# Altium schematic symbol library 辉光管.SCHLIB: 20 symbols
Pins are listed as number, name and electrical type; pins without a type are passive.

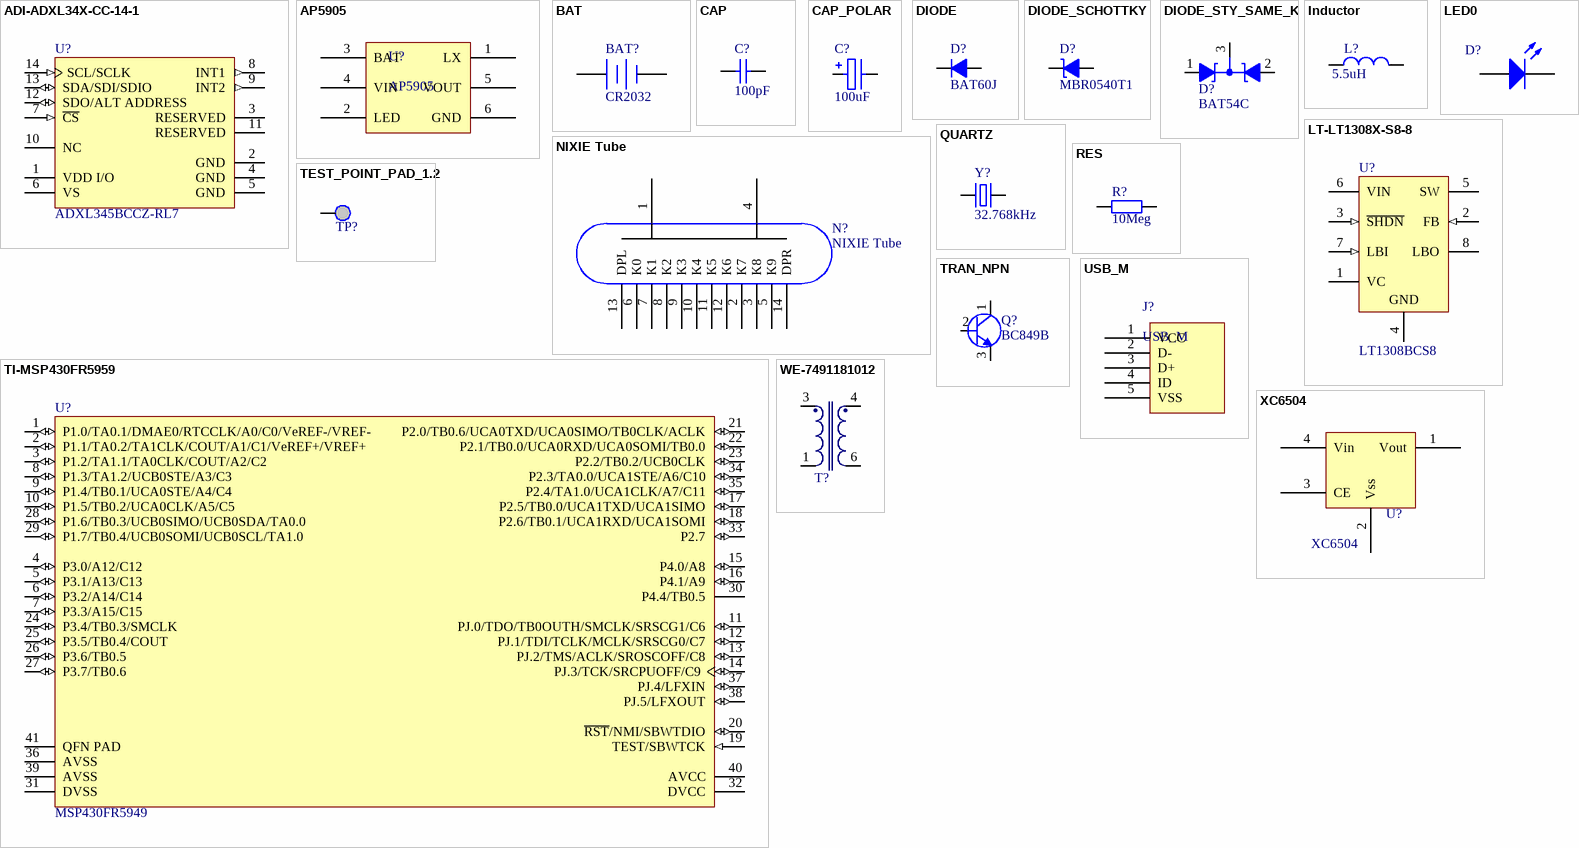
[diagram p0: symbols ADI-ADXL34X-CC-14-1 to XC6504]

## ADI-ADXL34X-CC-14-1
designator U?, comment ADXL345BCCZ-RL7
3-Axis, +/-2 g / +/-4 g / +/-8 g / +/-16 g Digital Accelerometer with Digital Output, 1.6 KHz BW, Industrial, 14-pin LGA, Reel; Manufacturer: Analog Devices; Supply Current: 140 uA; Voltage Supply (V): 2.0 to 3.6; -3dB Bandwidth: 1.6 KHz; Sensitivity: 256/128/64/32 LSB/g; # of Axes: 3; Output Type: Digital; PackageDescription: 14-Pin Land Grid Array, 3 x 5 mm Body, 0.8 mm Pitch; ComponentLink1URL: http://www.analog.com/en/index.html; ComponentLink2Description: Datasheet; PartNumber: ADXL345BCCZ-RL7; ComponentLink3Description: Package Specification; ComponentLink4URL: http://www.analog.com/en/mems-sensors/mems-inertial-sensors/adxl345/products/product.html; PackageVersion: 03-16-2010-A, 03/2010; ComponentLink1Description: Manufacturer URL; ComponentLink2URL: http://www.analog.com/static/imported-files/data_sheets/ADXL345.pdf; DatasheetVersion: Rev. D; PackageReference: CC-14-1; Packing: Reel; Mounting Technology: Surface Mount; ComponentLink4Description: Product URL; ComponentLink3URL: http://www.analog.com/static/imported-files/data_sheets/ADXL343.pdf
footprint ADI-CC-14-1_V (QFN, 14-Leads, Body 5x3mm, Pitch 0.8mm)
pins: 1 VDD I/O (power) "Digital Interface Supply Voltage.", 2 GND (power) "This pin must be connected to ground.", 3 RESERVED "Reserved. This pin must be connected to VS or left open.", 4 GND (power) "This pin must be connected to ground.", 5 GND (power) "This pin must be connected to ground.", 6 VS (power) "Supply Voltage.", 7 ~{CS} (in) "Chip Select.", 8 INT1 (out) "Interrupt 1 Output.", 9 INT2 (out) "Interrupt 2 Output.", 10 NC "Not Internally Connected.", 11 RESERVED "Reserved. This pin must be connected to ground or left open.", 12 SDO/ALT ADDRESS (io) "Serial Data Output (SPI 4-Wire)/Alternate I2C Address Select (I2C).", 13 SDA/SDI/SDIO (io) "Serial Data (I2C)/Serial Data Input (SPI 4-Wire)/Serial Data Input and Output (SPI 3-Wire).", 14 SCL/SCLK (in) "Serial Communications Clock. SCL is the clock for I2C, and SCLK is the clock for SPI."

## AP5905
designator U?
AIO Lithium Battery Management Chip
pins: 1 LX, 2 LED, 3 BAT (power), 4 VIN (power), 5 VOUT (power), 6 GND (power)

## BAT
designator BAT?, comment CR2032
Lithium Battery Coin Cell; PartNumber: 410; Valid: yes; MaterialNumber: 0515 0028; MaterialStatus: B; MaterialDescEN: discontinued use 0515 5028; MaterialDescDE: Lithium Knopfzelle CR 2032; MaterialPriceEUR: 0.22000; MaterialPriceRMB: 0.00000; MaterialStatus1000: A; MaterialNumberMounting: 0515-0028; AngularOffsetMounting: 0; UsageRecommendation: preferred; approved: no; ComponentLink1Description: release document; ComponentLink2Description: datasheet; ComponentLink1URL: http://testocadcae01/material/mechanic.php?id=5009; ComponentLink2URL: http://testocadcae01/material/view_ds.php?data_id=14451; Mounting: THT; StandardMagazin1000: no
pins: 1 +, 2 -

## CAP
designator C?, comment 100pF
Chip capacitor; PartNumber: 202; Valid: yes; MaterialNumber: 0286 0064; MaterialStatus: A; MaterialDescEN: MLCC chip capacitor, 0402, COG, 100pF,; MaterialDescDE: MLCC Chip Kondensator, 0402, COG, 100pF,; MaterialPriceEUR: 0.00092; MaterialPriceRMB: 0.00000; MaterialNumberMounting: 0286-0064; AngularOffsetMounting: 0; UsageRecommendation: preferred; Sim Validation: not tested; StandardMagazin1000: no; Tolerance: 5%; T_op_max: 125掳C; T_op_min: -55掳C; V_max: 50V; dielectric-material: ceramic NP0 / C0G; ComponentLink1Description: release document; ComponentLink2Description: datasheet first source; ComponentLink3Description: datasheet second source; ComponentLink1URL: http://testocadcae01/material/electronic.php?id=5237; ComponentLink2URL: http://testocadcae01/material/view_ds.php?data_id=14900; ComponentLink3URL: http://testocadcae01/material/view_ds.php?data_id=14901; Mounting: SMD; LifeCycleInformation: P; MaterialStatus1000: A; approved: yes; Package: C0402; Value: 100pF
footprint C0402
simulation model Capacitor (Simple ideal capacitor)
pins: 1, 2

## CAP_POLAR
designator C?, comment 100uF
Capacitor, Tant, 100uF, 6.3V, 10%, case B; PartNumber: 908; Valid: yes; MaterialNumber: 0288 0100; MaterialStatus: A; MaterialPriceEUR: 0.00000; MaterialPriceRMB: 0.36000; MaterialNumberMounting: 0288-0100; AngularOffsetMounting: 0; approved: no; Sim Validation: not tested; T_op_max: 125掳C; T_op_min: -55掳C; dielectric-material: electrolytic tantal; ComponentLink1Description: release document; ComponentLink2Description: datasheet; ComponentLink1URL: http://testocadcae01/material/electronic.php?id=5298; ComponentLink2URL: http://testocadcae01/material/view_ds.php?data_id=15027; Mounting: SMD; MaterialDescEN: Capacitor, Tant, 100Uf,6.3V, 10%, case B; MaterialDescDE: Capacitor, Tant, 100Uf,6.3V, 10%, case B; MaterialStatus5120: A; StandardMagazin1000: no; Package: TANT B; Value: 100uF; Tolerance: 10%; V_max: 6.3V
footprint TANTAL_SIZE_B
simulation model Capacitor
pins: 1, 2

## DIODE
designator D?, comment BAT60J
Small Signal Schottky Diode; PartNumber: 1001; Valid: yes; MaterialNumber: 0306 0046; MaterialStatus: A; MaterialDescEN: Diode, BAT60J, SOD-323,ST; MaterialPriceEUR: 0.00000; MaterialPriceRMB: 0.48000; MaterialNumberMounting: 0306-0046; AngularOffsetMounting: 0; approved: no; Sim Validation: not tested; T_op_min: -65掳C; T_op_max: 150掳C; V_r: 10V; P_max: 310mW; ComponentLink1Description: release document; ComponentLink2Description: datasheet; ComponentLink1URL: http://testocadcae01/material/electronic.php?id=5658; ComponentLink2URL: http://testocadcae01/material/view_ds.php?data_id=15609; Mounting: SMD; MaterialDescDE: Diode, BAT60J, SOD-323,ST; MaterialStatus5120: A; StandardMagazin1000: no; Package: SOD-323; diode-type: Schottky
footprint SOD323
pins: 1 K, 2 A

## DIODE_SCHOTTKY
designator D?, comment MBR0540T1
Schottky Dioden; PartNumber: 560; Valid: yes; MaterialNumber: 0306 0011; MaterialStatus: A; MaterialDescEN: Schottky-Diode MBR0540 (0.5A 40 V); MaterialPriceEUR: 0.01800; MaterialPriceRMB: 0.25000; MaterialNumberMounting: 0306-0011; AngularOffsetMounting: 0; UsageRecommendation: exceptional; Sim Validation: not tested; StandardMagazin1000: no; T_op_min: -55掳C; T_op_max: +150掳C; I_max: 0.5A; V_r: 40V; ComponentLink1Description: release document; ComponentLink2Description: datasheet; ComponentLink1URL: http://testocadcae01/material/electronic.php?id=5620; ComponentLink2URL: http://testocadcae01/material/view_ds.php?data_id=15538; Mounting: SMD; LifeCycleInformation: P; MaterialDescDE: Schottky-Diode MBR0540 (0.5A 40 V); MaterialStatus1000: A; MaterialStatus5120: A; approved: yes; Package: SOD123; diode-type: Schottky
footprint SOD123W
simulation model MBR0540T3 (Diode)
pins: 1 K, 2 A

## DIODE_STY_SAME_K
designator D?, comment BAT54C
Schottky Dioden, Gemeinsame Kathode; PartNumber: 586; Valid: yes; MaterialNumber: 0306 0543; MaterialStatus: A; MaterialDescEN: Diode BAT54C SOT-23,Philips; MaterialPriceEUR: 0.01000; MaterialPriceRMB: 0.08000; MaterialNumberMounting: 0306-0543; AngularOffsetMounting: 90; UsageRecommendation: exceptional; Sim Validation: broken; StandardMagazin1000: no; T_op_min: -65°C; T_op_max: +150°C; I_max: 600mA; V_r: 30V; ComponentLink1Description: release document; ComponentLink2Description: datasheet; ComponentLink1URL: http://testocadcae01/material/electronic.php?id=2325; ComponentLink2URL: http://testocadcae01/material/view_ds.php?data_id=9112; Mounting: SMD; MaterialDescDE: Diode BAT54C SOT-23,Philips; MaterialStatus1000: A; MaterialStatus5120: A; approved: yes; Package: SOT23-3; diode-type: Schottky
footprint SOT23_3_132
simulation model DI_BAT54C (Schottky Diode Gemeinsame K)
pins: 1 A, 2 A, 3 k

## Inductor
designator L?, comment 5.5uH
Inductor 5.5uH; Value: 5.5uH
footprint 1206 (贴片元件)
footprint L-SMD-7 (贴片电感7*7)
pins: 1, 2

## LED0
designator D?, comment LED  (value not drawn)
Published: 8-Jun-2000; LatestRevisionDate: 08-Jul-2005; LatestRevisionNote: Mech Layer 1 removed.; PackageReference: LED-0; Publisher: Altium Limited
footprint LED_A1 (直径3MM发?)
footprint LED_0805 (贴片二?)
footprint LED_A2 (直径3MM?)
footprint LED-3528 (贴片二极管)
pins: 1 A, 2 K

## LT-LT1308X-S8-8
designator U?, comment LT1308BCS8
Single Cell High Current Micropower 600 kHz Boost DC/DC Converter, 8-pin SOIC (S8-8), 0 to 70 degC; Manufacturer: Linear Technology; Number of Outputs: 1; PackageVersion: Rev. G, 03/2012; PartNumber: LT1308BCS8; PackageReference: S8-8; ComponentLink3URL: http://cds.linear.com/docs/en/packaging/05081610_G_SO8.pdf; ComponentLink2Description: Datasheet; Mounting Technology: Surface Mount; ComponentLink1Description: Manufacturer URL; RoHS: FALSE; DatasheetVersion: Rev. B; ComponentLink1URL: http://www.linear.com/; ComponentLink2URL: http://cds.linear.com/docs/en/datasheet/1308abfb.pdf; PackageDescription: 8-Pin Plastic Small Outline (Narrow .150 Inch), Body 4.9 x 3.9 mm, Pitch 1.27 mm; ComponentLink3Description: Package Specification
footprint LT-S8-8_M (SOIC, 8-Leads, Body 5x4mm, Pitch 1.27mm, IPC Low Density)
footprint LT-S8-8_N (SOIC, 8-Leads, Body 5x4mm, Pitch 1.27mm, IPC Medium Density)
footprint LT-S8-8_L (SOIC, 8-Leads, Body 5x4mm, Pitch 1.27mm, IPC High Density)
pins: 1 VC "Compensation Pin for Error Amplifier. Connect a series RC from this pin to ground. Typical values are 47kohm and 100pF. Minimize trace area at VC.", 2 FB (in) "Feedback Pin. Reference voltage is 1.22V. Connect resistive divider tap here. Minimize trace area at FB. Set VOUT according to: VOUT = 1.22V(1 + R1/R2).", 3 ~{SHDN} (in) "Shutdown. Ground this pin to turn off switcher. To enable, tie to 1V or more. S\H\D\N\ does not need to be at VIN to enable the device.", 4 GND (power) "Ground. Connect directly to local ground plane. Ground plane should enclose all components associated with the LT1308. PCB copper connected to these pins also functions as a heat sink. For the TSSOP package, connect all pins (See Datasheet)", 5 SW "Switch Pins. Connect inductor/diode here. Minimize trace area at these pins to keep EMI down. For the TSSOP package, connect all SW pins together at the package.", 6 VIN (power) "Supply Pins. Must have local bypass capacitor right at the pins, connected directly to ground. For the TSSOP package, connect both VIN pins together at the package.", 7 LBI (in) "Low-Battery Detector Input. 200mV reference. Voltage on LBI must stay between -100mV and 1V. Low-battery detector does not function with S\H\D\N\ pin grounded. Float LBI pin if not used.", 8 LBO (hiz) "Low-Battery Detector Output. Open collector, can sink 50uA. A 220kohm pull-up is recommended. LBO is high impedance when S\H\D\N\ is grounded"

## NIXIE Tube
designator N?
footprint NIXIE-Tube (SOP, 12-Leads, Body 6.5x2.5mm (max), Pitch 1.00mm, IPC Medium Density)
pins: 1 A0, 2 K7, 3 K8, 4 A0, 5 K9, 6 K0, 7 K1, 8 K2, 9 K3, 10 K4, 11 K5, 12 K6, 13 DPL, 14 DPR

## QUARTZ
designator Y?, comment 32.768kHz
Quartz, FC-135; PartNumber: 665; Valid: yes; MaterialNumber: 0305 0071; MaterialStatus: A; MaterialDescEN: Quarz 32,768kHz,-/+20PPM,3215; MaterialDescDE: Quarz 32,768kHz FC-135, 9pF; MaterialPriceEUR: 0.16000; MaterialPriceRMB: 1.00000; MaterialNumberMounting: 0305-0071; AngularOffsetMounting: 0; UsageRecommendation: preferred; StandardMagazin1000: no; Tolerance: 20ppm; T_op_max: +85掳C; T_op_min: -40掳C; ComponentLink1Description: release document; ComponentLink2Description: datasheet; ComponentLink1URL: http://testocadcae01/material/electronic.php?id=4751; ComponentLink2URL: http://testocadcae01/material/view_ds.php?data_id=13999; Mounting: SMD; MaterialStatus1000: A; MaterialStatus5120: A; approved: yes; Value: 32.768kHz
footprint QUARTZ-JTX310
pins: 1 OSC1, 2 OSC2

## RES
designator R?, comment 10Meg
chip resistor; PartNumber: 66; Valid: yes; MaterialNumber: 0257 7100; MaterialStatus: A; MaterialDescEN: Chip-R 10 M SMD 0402; MaterialPriceEUR: 0.00102; MaterialPriceRMB: 0.01000; MaterialNumberMounting: 0257-7100; AngularOffsetMounting: 0; UsageRecommendation: preferred; Sim Validation: not tested; StandardMagazin1000: no; Tolerance: 5%; TempCoeff: 200ppm/K; P_max: 0.063W; ComponentLink1Description: release document; ComponentLink2Description: datasheet; ComponentLink1URL: http://testocadcae01/material/electronic.php?id=575; ComponentLink2URL: http://testocadcae01/material/view_ds.php?data_id=1126; Mounting: SMD; MaterialDescDE: Chip-R 10 M SMD 0402; MaterialStatus1000: A; MaterialStatus5120: A; approved: yes; Package: R0402; Value: 10Meg
footprint R0402
simulation model Resistor (simple ideal resistor)
pins: 1, 2

## TEST_POINT_PAD_1.2
designator TP?, comment TP  (value not drawn)
testpoint; Text Field1: NA
footprint PAD_1.2
footprint CAP_1.0
pins: 1

## TI-MSP430FR5959
designator U?, comment MSP430FR5949
24 MHz Mixed Signal Microcontroller, 1024 B SRAM and 33 GPIOs, -40 to 85 degC, 40-pin QFN (RHA), Green (RoHS & no Sb/Br); PartNumber: MSP430FR5739IRHAT; Manufacturer: Texas Instruments; ADC Channels: 14; SVS: Yes; USCI_A (UART/LIN/IrDA/SPI): 2; Multiplier: 32x32; GPIO: 33; USCI_B (I2C & SPI): 1; SRAM(B): 1024; Timers - 16-bit: 5; FRAM(KB): 16; ADC: 10-bit SAR; DMA: 3; SubFamily: FRAM Series; Frequency(MHz): 24; ComponentLink3Description: Package Specification; DatasheetVersion: SLAS639D; PackageDescription: 40-Pin Plastic Flat Pack, Body 6 x 6 mm, Pitch 0.5 mm; Mounting Technology: Surface Mount; Eco-Plan: Green (RoHS & no Sb/Br); PackageReference: RHA40-2900X2900TP; ComponentLink2Description: Datasheet; Code_JEDEC: MO-153; Comparators: Yes; Watchdog: Yes; ComponentLink2URL: http://www.ti.com/general/docs/lit/getliterature.tsp?genericPartNumber=MSP430FR5739&fileType=pdf; Brown Out Reset: Yes; ComponentLink1Description: Manufacturer URL; ComponentLink1URL: http://www.ti.com/; ComponentLink3URL: http://www.ti.com/litv/pdf/mtss003d; Real-Time Clock: Yes
footprint TI-RHA40-2900X2900TP_N (QFN, 40-Leads, Body 6x6mm, Pitch 0.5mm, Thermal Pad 2.9x2.9mm, IPC Medium Density)
pins: 1 P1.0/TA0.1/DMAE0/RTCCLK/A0/C0/VeREF-/VREF- (io), 2 P1.1/TA0.2/TA1CLK/COUT/A1/C1/VeREF+/VREF+ (io), 3 P1.2/TA1.1/TA0CLK/COUT/A2/C2 (io), 4 P3.0/A12/C12 (io), 5 P3.1/A13/C13 (io), 6 P3.2/A14/C14 (io), 7 P3.3/A15/C15 (io), 8 P1.3/TA1.2/UCB0STE/A3/C3 (io), 9 P1.4/TB0.1/UCA0STE/A4/C4 (io), 10 P1.5/TB0.2/UCA0CLK/A5/C5 (io), 11 PJ.0/TDO/TB0OUTH/SMCLK/SRSCG1/C6 (io), 12 PJ.1/TDI/TCLK/MCLK/SRSCG0/C7 (io), 13 PJ.2/TMS/ACLK/SROSCOFF/C8 (io), 14 PJ.3/TCK/SRCPUOFF/C9 (io), 15 P4.0/A8 (io), 16 P4.1/A9 (io) "General-purpose digital I/O with port interrupt and wake up from LPMx.5 (not available on package options DA, PW, RGE)", 17 P2.5/TB0.0/UCA1TXD/UCA1SIMO (io), 18 P2.6/TB0.1/UCA1RXD/UCA1SOMI (io), 19 TEST/SBWTCK (in), 20 ~{RST}/NMI/SBWTDIO (io), 21 P2.0/TB0.6/UCA0TXD/UCA0SIMO/TB0CLK/ACLK (io), 22 P2.1/TB0.0/UCA0RXD/UCA0SOMI/TB0.0 (io), 23 P2.2/TB0.2/UCB0CLK (io), 24 P3.4/TB0.3/SMCLK (io), 25 P3.5/TB0.4/COUT (io), 26 P3.6/TB0.5 (io), 27 P3.7/TB0.6 (io), 28 P1.6/TB0.3/UCB0SIMO/UCB0SDA/TA0.0 (io), 29 P1.7/TB0.4/UCB0SOMI/UCB0SCL/TA1.0 (io), 30 P4.4/TB0.5 "Regulated core power supply (internal use only, no external current loading)", 31 DVSS (power) "Digital ground supply", 32 DVCC (power) "Digital power supply", 33 P2.7 (io) "General-purpose digital I/O with port interrupt and wake up from LPMx.5 (not P2.7 33 N/A 35 N/A N/A I/O available on package options PW, RGE)", 34 P2.3/TA0.0/UCA1STE/A6/C10 (io), 35 P2.4/TA1.0/UCA1CLK/A7/C11 (io), 36 AVSS (power) "Analog ground supply", 37 PJ.4/LFXIN (io), 38 PJ.5/LFXOUT (io), 39 AVSS (power) "Analog ground supply", 40 AVCC (power) "Analog power supply", 41 QFN PAD (power) "QFN package pad. Connection to VSS recommended."

## TRAN_NPN
designator Q?, comment BC849B
NPN Transistor; PartNumber: 607; Valid: yes; MaterialNumber: 0307 0849; MaterialStatus: A; MaterialDescEN: NPN-NF-Transistor BC849B; MaterialPriceEUR: 0.00890; MaterialPriceRMB: 0.09000; MaterialStatus5120: I; MaterialNumberMounting: 0307-0849; AngularOffsetMounting: 90; UsageRecommendation: exceptional; Sim Validation: basic function; T_op_min: -65掳C; T_op_max: +150掳C; I_max: 200mA; P_max: 330mW; ComponentLink1Description: release document; ComponentLink2Description: datasheet; ComponentLink3Description: Ex-Doku; ComponentLink1URL: http://testocadcae01/material/electronic.php?id=5779; ComponentLink2URL: http://testocadcae01/material/view_ds.php?data_id=15803; ComponentLink3URL: http://testocadcae01/material/view_ds.php?data_id=15802; Mounting: SMD; MaterialDescDE: NPN-NF-Transistor BC849B; MaterialStatus1000: A; approved: yes; StandardMagazin1000: yes; Package: SOT23-3; transistor-type: NPN
footprint SOT23_3_213
simulation model BC849B (NPN Transistor)
pins: 1 C, 2 B, 3 E

## USB_M
designator J?
MicroUSB Connector
footprint USB_MICRO (USB方孔)
pins: 1 VCC, 2 D- , 3 D+, 4 ID, 5 VSS

## WE-7491181012
designator T?, comment 7491181012  (value not drawn)
Off-Line Transformer WE-UNIT , L=2.8mH; Manufacturer: Wuerth Elektronik; Output Voltage (DC): 12; Output Current (A): 0.25; Inductance: 2.8mH; Input Voltage (AC): 85-265; ComponentLink2URL: http://www.we-online.de/katalog/media/pdf/7491181012.pdf; PartNumber: 7491181012; ComponentLink1Description: Manufacturer URL; ComponentLink1URL: http://www.we-online.com; ComponentLink2Description: Datasheet; PackageReference: EE13_7_4-Vertical_(EF12.6)
footprint EE13_7_4-Vertical_(EF12.6) (THT, 6-Leads, Body 15 x11mm (max), Pitch 3.81mm)
pins: 1, 3, 4, 6

## XC6504
designator U?
footprint USPN-4B02
footprint USPQ-4B04
footprint Model Name (Footprint not found)
footprint USPQ-4B04
footprint USPQ-4B04
footprint USPQ-4B04
footprint USPQ-4B04
footprint USPQ-4B04
pins: 1 Vout, 2 Vss, 3 CE, 4 Vin